# EAGLE library part SI9986DY-T1-E3 (library Vishay_By_element14_Batch_1)
Buffered H-Bridge
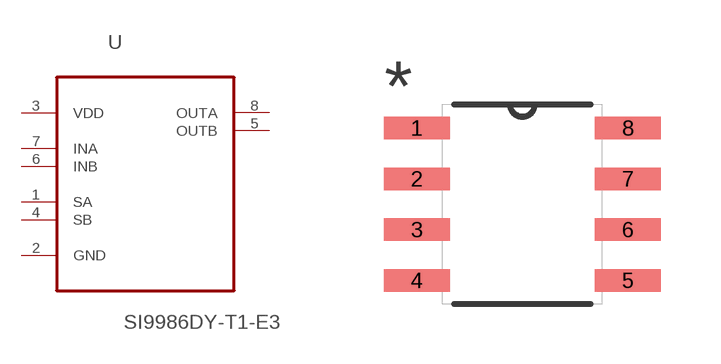
[diagram p102: symbol with the pads of SOIC127P600X175-8N; footprint SOIC127P600X175-8N]

Designator prefix U

## SI9986DY-T1-E3 (MPN: SI9986DY-T1-E3; OC_FARNELL: 1469440; OC_NEWARK: 06J8287; PACKAGE: SOIC-8; SUPPLIER: VISHAY SILICONIX)  [SOIC127P600X175-8N]
1  SA  in
2  GND  pas
3  VDD  pwr
4  SB  in
5  OUTB  out
6  INB  in
7  INA  in
8  OUTA  out

## Footprint SOIC127P600X175-8N (pad centres in mm)
smd 1.651 x 0.559: 1 -2.642,1.905; 2 -2.642,0.635; 3 -2.642,-0.635; 4 -2.642,-1.905; 5 2.642,-1.905; 6 2.642,-0.635; 7 2.642,0.635; 8 2.642,1.905